# Altium footprint library WE-CBF.PcbLib: 20 footprints (part 2 of 2)
Each footprint in its own frame and in the unit in brackets; x right, y up, seen from the top. Pads: shape width x height; smd on the part's side, far side on the other; paste and mask are expansions set on the pad; w line width, h text height; cw(c..) or ccw(c..) is an arc to the next point about the centre after c.
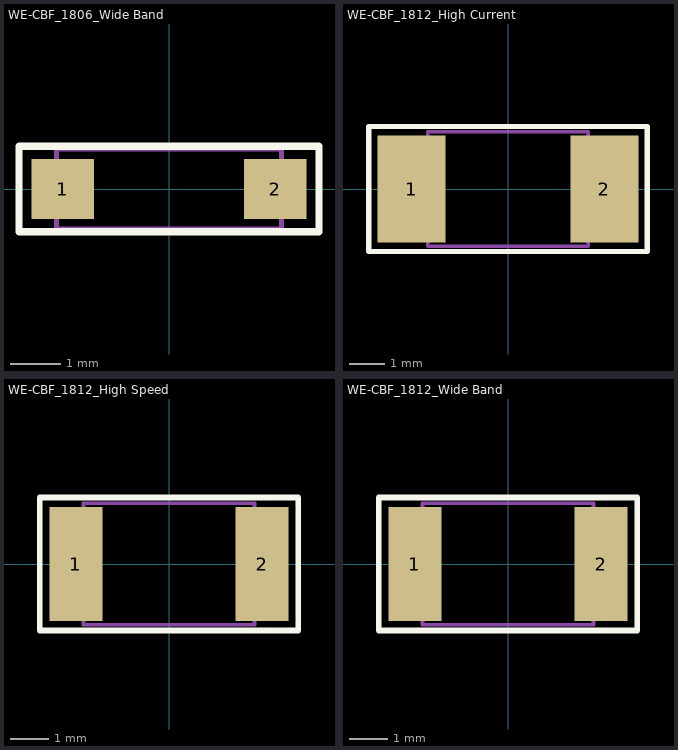
[diagram p1: the footprints below, top view; thin cyan lines are the x and y axes]

## WE-CBF_1806_Wide Band [mm] "SMD EMI Suppression Ferrite  Bead, body 4.5mmx1.6mm"
height 1.6
pads (2):
  rect 1.25x1.2 smd: 1(-2.125,0) 2(2.125,0)
Top Overlay:
  lines w0.15: -3,-0.85 3,-0.85 3,0.85 -3,0.85 -3,-0.85
Mechanical 15:
  lines w0.1: -2.25,-0.8 2.25,-0.8 2.25,0.8 -2.25,0.8 -2.25,-0.8
3D body "WE-CBF_1806_CBF.stp": height 1.63, standoff 0.03, extent -2.25,-0.8 2.25,0.8

## WE-CBF_1812_High Current [mm] "SMD EMI Suppression Ferrite  Bead, body 4.5mmx3.2mm"
height 1.5
pads (2):
  rect 1.9x3 smd: 1(-2.7,0) 2(2.7,0)
Top Overlay:
  lines w0.15: -3.9,-1.75 -3.9,1.75 3.9,1.75 3.9,-1.75 -3.9,-1.75
Mechanical 15:
  lines w0.1: -2.25,-1.6 -2.25,1.6 2.25,1.6 2.25,-1.6 -2.25,-1.6
3D body "WE-CBF_1812_CBF.stp": height 1.55, standoff 0.05, extent -2.25,-1.6 2.25,1.6

## WE-CBF_1812_High Speed [mm] "SMD EMI Suppression Ferrite  Bead, body 4.5mmx3.2mm"
height 1.5
pads (2):
  rect 1.4x3 smd: 1(-2.45,0) 2(2.45,0)
Top Overlay:
  lines w0.15: -3.4,-1.75 -3.4,1.75 3.4,1.75 3.4,-1.75 -3.4,-1.75
Mechanical 15:
  lines w0.1: -2.25,-1.6 -2.25,1.6 2.25,1.6 2.25,-1.6 -2.25,-1.6
3D body "WE-CBF_1812_CBF.stp": height 1.55, standoff 0.05, extent -2.25,-1.6 2.25,1.6

## WE-CBF_1812_Wide Band [mm] "SMD EMI Suppression Ferrite  Bead, body 4.5mmx3.2mm"
height 1.5
pads (2):
  rect 1.4x3 smd: 1(-2.45,0) 2(2.45,0)
Top Overlay:
  lines w0.15: -3.4,-1.75 3.4,-1.75 3.4,1.75 -3.4,1.75 -3.4,-1.75
Mechanical 15:
  lines w0.1: -2.25,-1.6 2.25,-1.6 2.25,1.6 -2.25,1.6 -2.25,-1.6
3D body "WE-CBF_1812_CBF.stp": height 1.55, standoff 0.05, extent -2.25,-1.6 2.25,1.6